# Altium schematic symbol library SCH - POWER - SWITCHMODE - TI TPS61089RNR.SchLib: 1 symbol
Pins are listed as number, name and electrical type; pins without a type are passive.

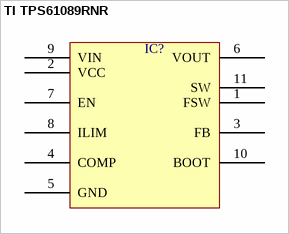
[diagram p0: symbol TI TPS61089RNR]

## TI TPS61089RNR
designator IC?  (value not drawn)
pins: 1 FSW, 2 VCC, 3 FB, 4 COMP, 5 GND, 6 VOUT, 7 EN, 8 ILIM, 9 VIN, 10 BOOT, 11 SW